# Altium footprint library local_lib.PcbLib: 3 footprints
Each footprint in its own frame and in the unit in brackets; x right, y up, seen from the top. Pads: shape width x height; smd on the part's side, far side on the other; paste and mask are expansions set on the pad; w line width, h text height; cw(c..) or ccw(c..) is an arc to the next point about the centre after c.
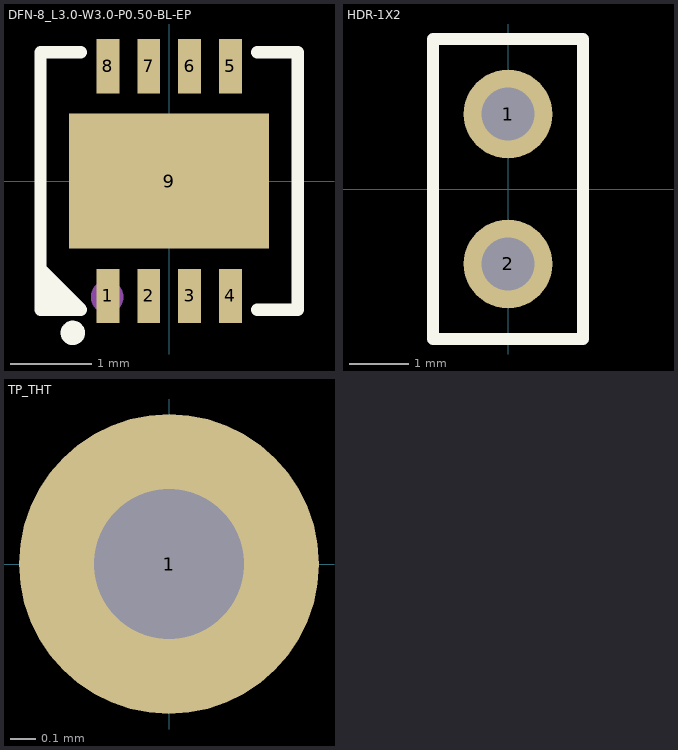
[diagram p0: the footprints below, top view; thin cyan lines are the x and y axes]

## DFN-8_L3.0-W3.0-P0.50-BL-EP [mm]
pads (9):
  rect 0.28x0.665 smd paste+0 mask+0.051: 1(-0.75,-1.407) 2(-0.25,-1.407) 3(0.25,-1.407) 4(0.75,-1.407) 5(0.75,1.407) 6(0.25,1.407) 7(-0.25,1.407) 8(-0.75,1.407)
  rect 2.45x1.65 smd paste+0 mask+0.051: 9(0,0)
Top Overlay:
  circle w0.15: c-1.18,-1.86 r0.075
  region: -1.08,-1.576 -1.576,-1.576 -1.58,-1.08
  lines w0.152: -1.576,-1.079 -1.08,-1.575 -1.08,-1.576 -1.576,-1.576 -1.576,1.576 -1.08,1.576 ; 1.08,-1.576 1.576,-1.576 1.576,1.576 1.08,1.576
Mechanical 15:
  circle w0.2: c-0.76,-1.42 r0.1

## HDR-1X2 [mm]
pads (2):
  round 1.5 hole 0.9: 1(0,1.27) 2(0,-1.27)
Top Overlay:
  lines w0.2: -1.27,-2.54 1.27,-2.54 1.27,2.54 -1.27,2.54 -1.27,-2.54

## TP_THT [mm]
pads (1):
  round 1.2 hole 0.6: 1(0,0)